# Altium schematic symbol library SCH - INTERFACE - DS26LV32ATM.SCHLIB: 1 symbol
Pins are listed as number, name and electrical type; pins without a type are passive.

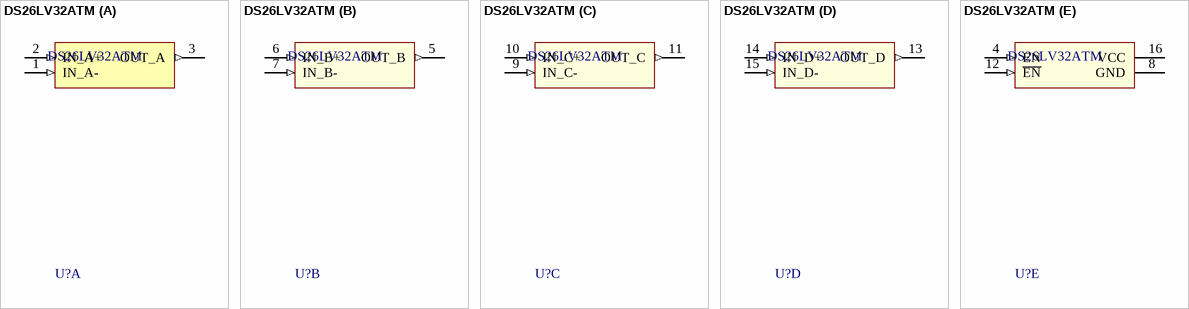
[diagram p0: symbol DS26LV32ATM]

## DS26LV32ATM
designator U?
3V Enhanced CMOS Quad Differential Line Receiver, 16-pin Narrow SOIC, Pb-Free
part A pins: 1 IN_A- (in), 2 IN_A+ (in), 3 OUT_A (out)
part B pins: 5 OUT_B (out), 6 IN_B+ (in), 7 IN_B- (in)
part C pins: 9 IN_C- (in), 10 IN_C+ (in), 11 OUT_C (out)
part D pins: 13 OUT_D (out), 14 IN_D+ (in), 15 IN_D- (in)
part E pins: 4 EN (in), 8 GND (power), 12 ~{EN} (in), 16 VCC (power)